# Altium integrated library CAPPOL-8x12.IntLib: 1 symbol
Pins are listed as number, name and electrical type; pins without a type are passive.

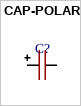
[diagram p0: symbol CAP-POLAR]

## CAP-POLAR
designator C?
footprint CAPPOL8x12
pins: 1 +, 2 -